# EAGLE library part MTA8 (library lib_paul)
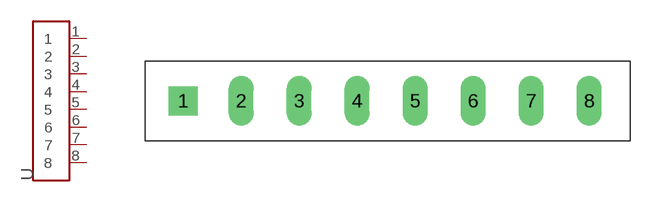
[diagram p3: symbol with the pads of CON8-5.08; footprint CON8-5.08]

Designator prefix -

## MTA8  [CON8-5.08]
1  1
2  2
3  3
4  4
5  5
6  6
7  7
8  8

## Footprint CON8-5.08 (pad centres in mm)
drill 1.2 pad 2.54 square: 1 -10.16,0
drill 1.2 pad 2.184 long: 2 -5.08,0; 3 0,0; 4 5.08,0; 5 10.16,0; 6 15.24,0; 7 20.32,0; 8 25.4,0